# Altium footprint library copal-switches.PcbLib: 4 footprints
Each footprint in its own frame and in the unit in brackets; x right, y up, seen from the top. Pads: shape width x height; smd on the part's side, far side on the other; paste and mask are expansions set on the pad; w line width, h text height; cw(c..) or ccw(c..) is an arc to the next point about the centre after c.
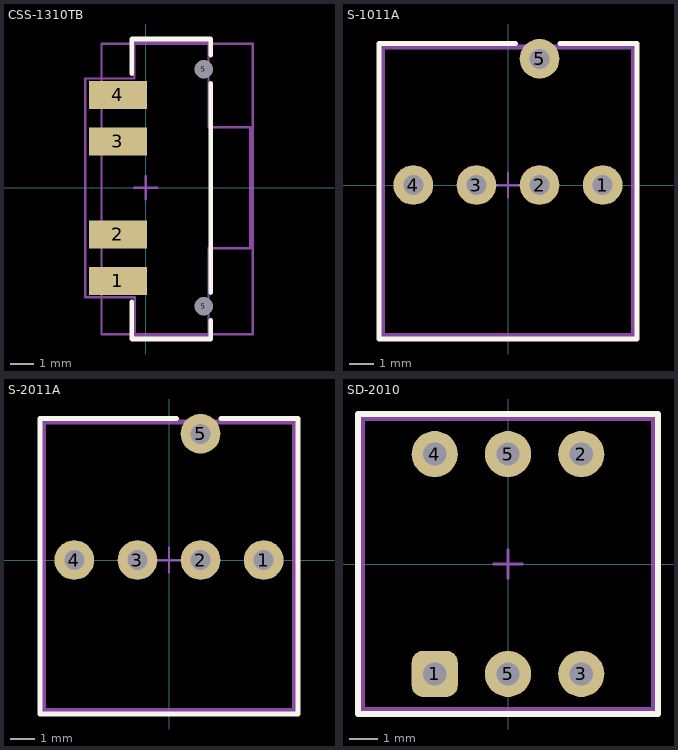
[diagram p0: the footprints below, top view; thin cyan lines are the x and y axes]

## CSS-1310TB [mm] "SP3T - Compact Slide Switch"
height 2
pads (6):
  rect 2.5x1.2 smd: 1(-1.2,-4) 2(-1.2,-2) 3(-1.2,2) 4(-1.2,4)
  round 0.4 hole 0.8 unplated: 5(2.5,-5.1) 5(2.5,5.1)
Top Overlay:
  lines w0.2: -0.6,-4.9 -0.6,-6.5 2.8,-6.5 2.8,-5.7 ; -0.6,4.9 -0.6,6.4 2.8,6.4 2.8,5.7 ; 2.8,-4.5 2.8,4.5
Mechanical 13:
  lines w0.1: -0.5,0 0.5,0 ; 0,-0.5 0,0.5 ; -1.9,-6.3 -1.9,6.2 4.6,6.2 4.6,-6.3 -1.9,-6.3
Mechanical 15:
  lines w0.1: -2.6,-4.7 -0.475,-4.7 -0.475,-6.4 2.7,-6.4 2.7,-2.6 4.5,-2.6 4.5,2.6 2.7,2.6 2.7,6.3 -0.5,6.3 -0.5,4.7 -2.6,4.7 -2.6,-4.7
  text ".Designator" at 1.5,1.74 h0.5
3D body: height 2, standoff -0.6, extent -1.9,-6.25 4.6,6.25

## S-1011A [mm] "Rotary DIP switch 16 pos."
height 10
pads (5):
  round 1.6 hole 0.8: 1(3.81,0) 2(1.27,0) 3(-1.27,0) 4(-3.81,0) 5(1.27,5.08)
Top Overlay:
  lines w0.2: 0.3,5.7 -5.2,5.7 -5.2,-6.2 5.2,-6.2 5.2,5.7 2.1,5.7
Mechanical 13:
  lines w0.1: -0.5,0 0.5,0 ; 0,-0.5 0,0.5 ; -5,-6 -5,5.5 5,5.5 5,-6 -5,-6
Mechanical 15:
  lines w0.1: -5.1,-6.1 -5.1,5.6 5.1,5.6 5.1,-6.1 -5.1,-6.1
  text ".Designator" at -2.1,-2.1 h0.8
3D body: height 10, standoff -3.5, extent -5,-6 5,5.5

## S-2011A [mm] "Rotary DIP switch 10 pos."
height 10
pads (5):
  round 1.6 hole 0.8: 1(3.81,0) 2(1.27,0) 3(-1.27,0) 4(-3.81,0) 5(1.27,5.08)
Top Overlay:
  lines w0.2: 0.3,5.7 -5.2,5.7 -5.2,-6.2 5.2,-6.2 5.2,5.7 2.1,5.7
Mechanical 13:
  lines w0.1: -0.5,0 0.5,0 ; 0,-0.5 0,0.5 ; -5,-6 -5,5.5 5,5.5 5,-6 -5,-6
Mechanical 15:
  lines w0.1: -5.1,-6.1 -5.1,5.6 5.1,5.6 5.1,-6.1 -5.1,-6.1
  text ".Designator" at -2.1,-2.1 h0.8
3D body: height 10, standoff -3.5, extent -5,-6 5,5.5

## SD-2010 [mm] "Rotary DIP switch 10 pos."
height 10
pads (6):
  rrect50% 1.6x1.6 hole 0.8: 1(-2.54,-3.81)
  round 1.6 hole 0.8: 2(2.54,3.81) 3(2.54,-3.81) 4(-2.54,3.81) 5(0,-3.81) 5(0,3.81)
Top Overlay:
  lines w0.2: -5.2,-5.2 -5.2,5.2 5.2,5.2 5.2,-5.2 -5.2,-5.2
Mechanical 13:
  lines w0.1: -0.5,0 0.5,0 ; 0,-0.5 0,0.5 ; -5,-5 -5,5 5,5 5,-5 -5,-5
Mechanical 15:
  lines w0.1: -5.1,-5.1 -5.1,5.1 5.1,5.1 5.1,-5.1 -5.1,-5.1
  text ".Designator" at -2.1,-2.1 h0.8
3D body: height 3.92, standoff -3.3, extent -5,-5 5,5